# Altium footprint library B4B-PH-K.PcbLib: 1 footprints
Each footprint in its own frame and in the unit in brackets; x right, y up, seen from the top. Pads: shape width x height; smd on the part's side, far side on the other; paste and mask are expansions set on the pad; w line width, h text height; cw(c..) or ccw(c..) is an arc to the next point about the centre after c.
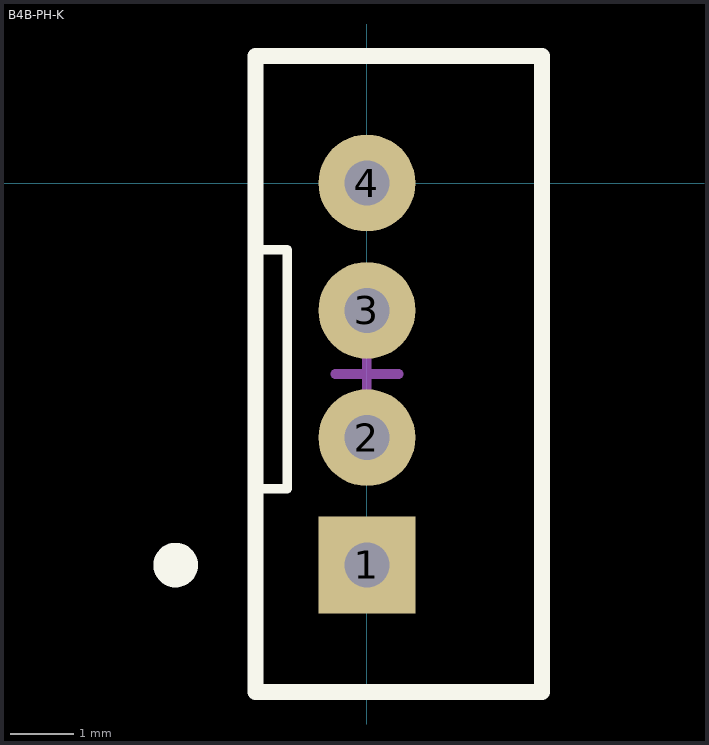
[diagram p0: the footprint, top view; thin cyan lines are the x and y axes]

## B4B-PH-K [mil]
pads (4):
  rect 60x60 hole 27.95 mask+2: 1(0,-236.22)
  round 60 hole 27.95 mask+2: 2(0,-157.48) 3(0,-78.74) 4(0,0)
Top Overlay:
  circle w15.75: c-118.33,-236.33 r5.91
  lines w5.91: -68.9,-41.34 -49.21,-41.34 -49.21,-188.98 -66.93,-188.98 -67.91,-189.96
  lines w9.84: -68.9,-314.96 -68.9,78.74 108.27,78.74 108.27,-314.96 -68.9,-314.96
Mechanical 13:
  lines w5.91: -68.9,78.74 -68.9,-314.96 108.27,-314.96 108.27,78.74 ; -68.9,78.74 108.27,78.74 ; -68.9,78.74 108.27,78.74
Mechanical 15:
  lines w5.91: 0,-118.11 -19.68,-118.11 19.68,-118.11 0,-118.11 ; 0,-118.11 0,-137.8 0,-98.43 0,-118.11
3D body "b4b-ph-k.step": height 236.72, standoff -117.61, extent -66.93,-312.99 110.24,76.77